# EAGLE library part XBEEXPLORER (library 1mario)
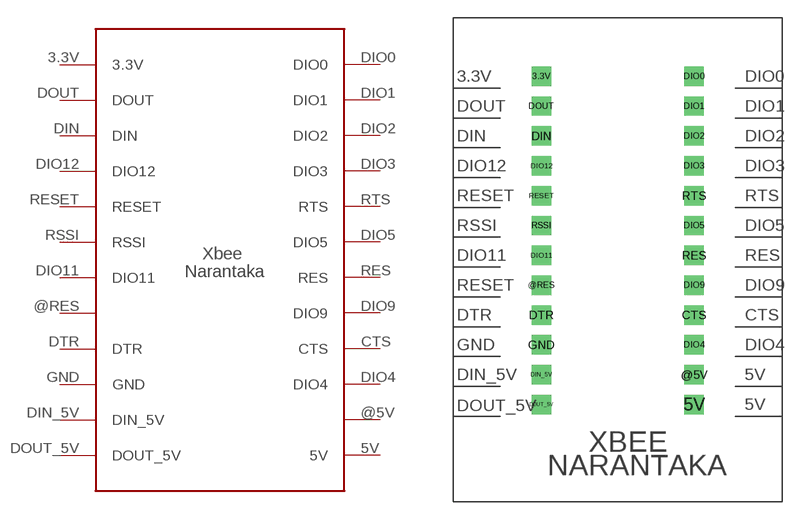
[diagram p3: symbol with the pads of XBEEXPLORER; footprint XBEEXPLORER]

Designator prefix -

## XBEEXPLORER  [XBEEXPLORER]
3.3V  3.3V
5V  5V
@5V
@RES
CTS  CTS
DIN  DIN
DIN_5V  DIN_5V
DIO0  DIO0
DIO1  DIO1
DIO2  DIO2
DIO3  DIO3
DIO4  DIO4
DIO5  DIO5
DIO9  DIO9
DIO11  DIO11
DIO12  DIO12
DOUT  DOUT
DOUT_5V  DOUT_5V
DTR  DTR
GND  GND
RES  RES
RESET  RESET
RSSI  RSSI
RTS  RTS

## Footprint XBEEXPLORER (pad centres in mm)
drill 1.1 square: 3.3V -6.5,25; 5V 6.5,-2.94; @5V 6.5,-0.4; @RES -6.5,7.22; CTS 6.5,4.68; DIN -6.5,19.92; DIN_5V -6.5,-0.4; DIO0 6.5,25; DIO1 6.5,22.46; DIO2 6.5,19.92; DIO3 6.5,17.38; DIO4 6.5,2.14; DIO5 6.5,12.3; DIO9 6.5,7.22; DIO11 -6.5,9.76; DIO12 -6.5,17.38; DOUT -6.5,22.46; DOUT_5V -6.5,-2.94; DTR -6.5,4.68; GND -6.5,2.14; RES 6.5,9.76; RESET -6.5,14.84; RSSI -6.5,12.3; RTS 6.5,14.84